# Altium schematic symbol library TPS63000DRCR.SchLib: 1 symbol
Pins are listed as number, name and electrical type; pins without a type are passive.

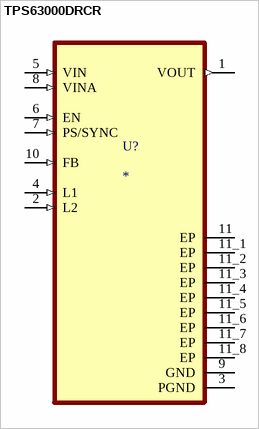
[diagram p0: symbol TPS63000DRCR]

## TPS63000DRCR
designator U?
96% Buck-Boost Converter with 1.8A Current Switches in 3x3 QFN 10-VSON -40 to 85; MF: {'manufacturer': u'Texas Instruments'}; MP: TPS63000DRCR; Package: None; Price: None; Value: *; Availability: Unavailable
footprint CONV_TPS63000DRCR
pins: 1 VOUT (out), 2 L2 (in), 3 PGND (power), 4 L1 (in), 5 VIN (in), 6 EN (in), 7 PS/SYNC (in), 8 VINA (in), 9 GND (power), 10 FB (in), 11 EP (power), 11_1 EP (power), 11_2 EP (power), 11_3 EP (power), 11_4 EP (power), 11_5 EP (power), 11_6 EP (power), 11_7 EP (power), 11_8 EP (power)